# EAGLE library part ROCKETNET-UMBILICAL-18 (library rocketnet-connector)
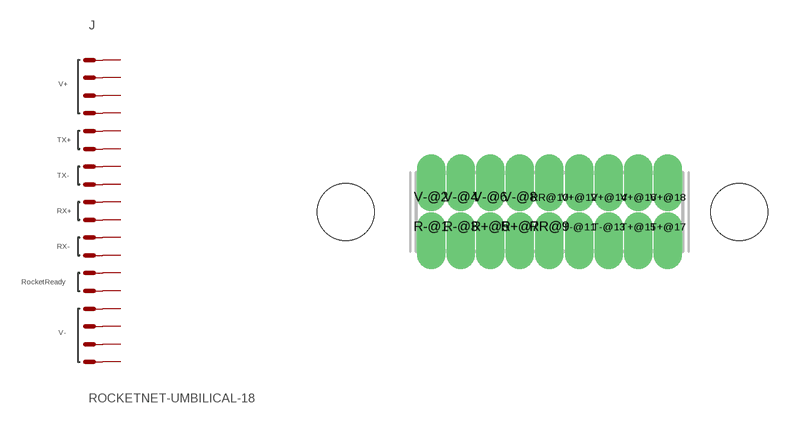
[diagram p2: symbol with the pads of ROCKETNET-M-18; footprint ROCKETNET-M-18]

Designator prefix J

## ROCKETNET-UMBILICAL-18  [ROCKETNET-M-18]
R+@5  R+  pas
R+@7  R+  pas
R-@1  R-  pas
R-@3  R-  pas
RR@9  RR  pas
RR@10  RR  pas
T+@15  T+  pas
T+@17  T+  pas
T-@11  T-  pas
T-@13  T-  pas
V+@12  V+  pas
V+@14  V+  pas
V+@16  V+  pas
V+@18  V+  pas
V-@2  V-  pas
V-@4  V-  pas
V-@6  V-  pas
V-@8  V-  pas

## Footprint ROCKETNET-M-18 (pad centres in mm)
drill 0.71 pad 0.95 offset: R+@5 -2.54,-0.635; R+@7 -1.27,-0.635; R-@1 -5.08,-0.635; R-@3 -3.81,-0.635; RR@9 0,-0.635; RR@10 0,0.635; T+@15 3.81,-0.635; T+@17 5.08,-0.635; T-@11 1.27,-0.635; T-@13 2.54,-0.635; V+@12 1.27,0.635; V+@14 2.54,0.635; V+@16 3.81,0.635; V+@18 5.08,0.635; V-@2 -5.08,0.635; V-@4 -3.81,0.635; V-@6 -2.54,0.635; V-@8 -1.27,0.635
hole 2.438 at 8.135,0
hole 2.438 at -8.735,0